# Altium footprint library QUTMS-Project-AMU.PcbLib: 2 footprints
Each footprint in its own frame and in the unit in brackets; x right, y up, seen from the top. Pads: shape width x height; smd on the part's side, far side on the other; paste and mask are expansions set on the pad; w line width, h text height; cw(c..) or ccw(c..) is an arc to the next point about the centre after c.
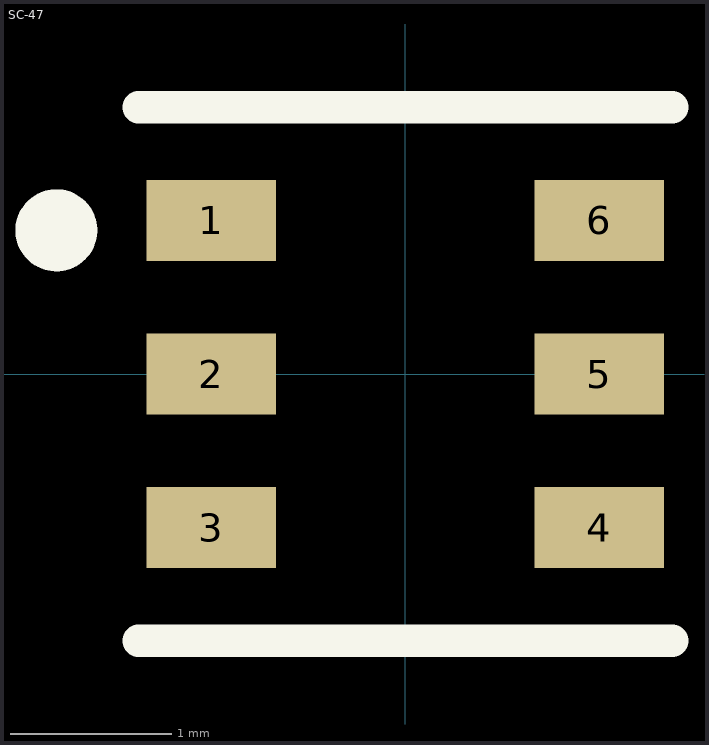
[diagram p0: the footprints below, top view; thin cyan lines are the x and y axes]

## PCBComponent_1 [mm]

## SC-47 [mm]
pads (6):
  rect 0.8x0.5 smd: 1(-1.2,0.95) 2(-1.2,0) 3(-1.2,-0.95) 4(1.2,-0.95) 5(1.2,0) 6(1.2,0.95)
Top Overlay:
  circle w0.254: c-2.159,0.889 r0.127
  lines w0.2: -1.651,-1.651 1.651,-1.651 ; -1.651,1.651 1.651,1.651
3D body "SC-74-6.stp": height 1.14, standoff 0.04, extent -1.3,-1.45 1.3,1.45